# Altium schematic symbol library ST7735_SPI_I2C.SchLib: 1 symbol
Pins are listed as number, name and electrical type; pins without a type are passive.

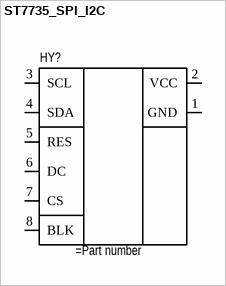
[diagram p0: symbol ST7735_SPI_I2C]

## ST7735_SPI_I2C
designator HY?
pins: 1 GND, 2 VCC, 3 SCL, 4 SDA, 5 RES, 6 DC, 7 CS, 8 BLK